# Altium integrated library INA219.IntLib: 1 symbol
Pins are listed as number, name and electrical type; pins without a type are passive.

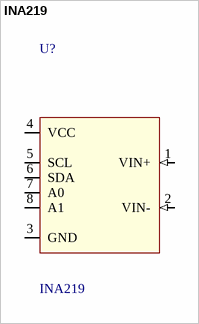
[diagram p0: symbol INA219]

## INA219
designator U?
the ina219 is a high-side current shunt and power monitor with an i2c interface. the ina219 monitors both shunt drop ...; MF: Texas Instruments; SnapEDA_Link: https://www.snapeda.com/parts/INA219/Texas%20Instruments/view-part/?ref=snap; Package: None; Availability: Unavailable; Price: None; MP: INA219; Value: *
footprint *SOT23-8
pins: 1 VIN+ (in), 2 VIN- (in), 3 GND (power), 4 VCC (power), 5 SCL (io), 6 SDA (io), 7 A0, 8 A1